# Altium integrated library SP160-SM02-R.IntLib: 1 symbol
Pins are listed as number, name and electrical type; pins without a type are passive.

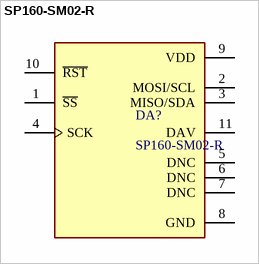
[diagram p0: symbol SP160-SM02-R]

## SP160-SM02-R
designator DA?
footprint SP160-SM02-R
pins: 1 ~{SS}, 2 MOSI/SCL, 3 MISO/SDA, 4 SCK, 5 DNC, 6 DNC, 7 DNC, 8 GND (power), 9 VDD (power), 10 ~{RST}, 11 DAV